# Altium schematic symbol library Resistors.SchLib: 45 symbols
Pins are listed as number, name and electrical type; pins without a type are passive.

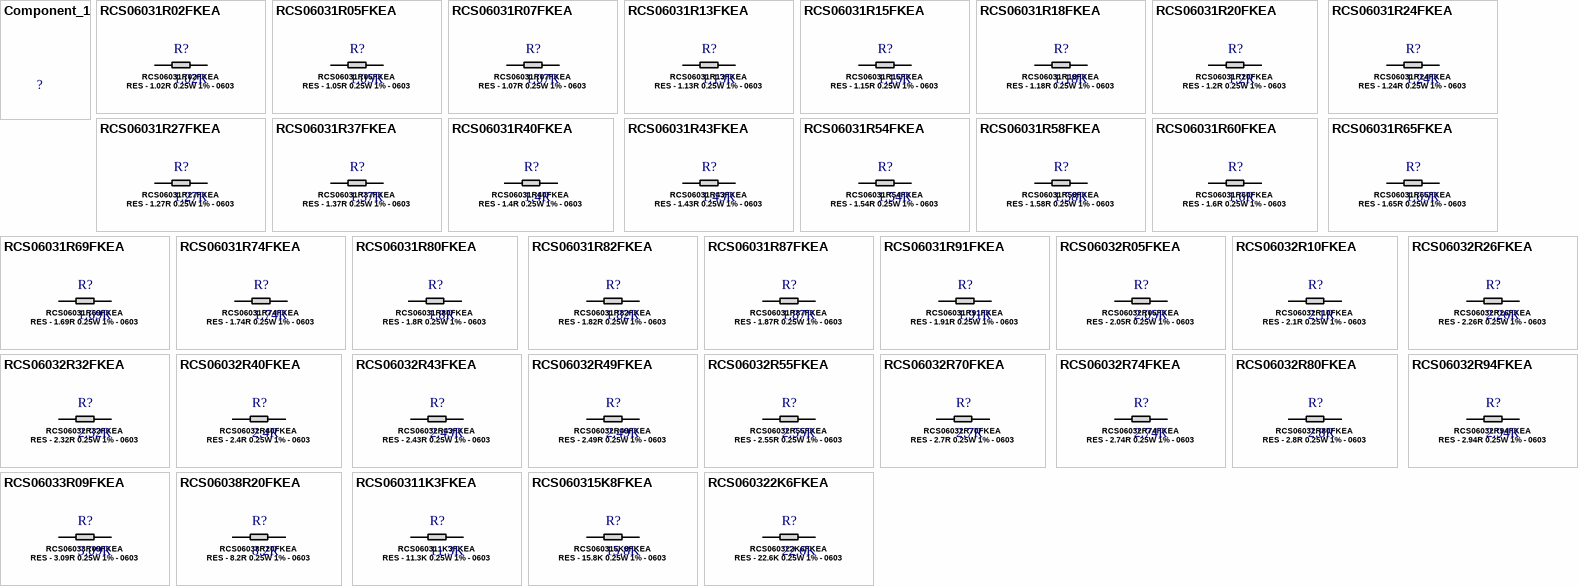
[diagram p0: symbols Component_1 to RCS060322K6FKEA]

## Component_1
designator ?

## RCS06031R02FKEA
designator R?, comment 1.02R  MPN: RCS06031R02FKEA
RES - 1.02R 0.25W 1% - 0603; Manufacturer: Vishay; Datasheet: https://www.vishay.com/docs/20065/rcse3.pdf; DES: RES - 1.02R 0.25W 1% - 0603
footprint RCS0603
pins: 1 ~, 2 ~

## RCS06031R05FKEA
designator R?, comment 1.05R  MPN: RCS06031R05FKEA
RES - 1.05R 0.25W 1% - 0603; Manufacturer: Vishay; Datasheet: https://www.vishay.com/docs/20065/rcse3.pdf; DES: RES - 1.05R 0.25W 1% - 0603
footprint RCS0603
pins: 1 ~, 2 ~

## RCS06031R07FKEA
designator R?, comment 1.07R  MPN: RCS06031R07FKEA
RES - 1.07R 0.25W 1% - 0603; Manufacturer: Vishay; Datasheet: https://www.vishay.com/docs/20065/rcse3.pdf; DES: RES - 1.07R 0.25W 1% - 0603
footprint RCS0603
pins: 1 ~, 2 ~

## RCS06031R13FKEA
designator R?, comment 1.13R  MPN: RCS06031R13FKEA
RES - 1.13R 0.25W 1% - 0603; Manufacturer: Vishay; Datasheet: https://www.vishay.com/docs/20065/rcse3.pdf; DES: RES - 1.13R 0.25W 1% - 0603
footprint RCS0603
pins: 1 ~, 2 ~

## RCS06031R15FKEA
designator R?, comment 1.15R  MPN: RCS06031R15FKEA
RES - 1.15R 0.25W 1% - 0603; Manufacturer: Vishay; Datasheet: https://www.vishay.com/docs/20065/rcse3.pdf; DES: RES - 1.15R 0.25W 1% - 0603
footprint RCS0603
pins: 1 ~, 2 ~

## RCS06031R18FKEA
designator R?, comment 1.18R  MPN: RCS06031R18FKEA
RES - 1.18R 0.25W 1% - 0603; Manufacturer: Vishay; Datasheet: https://www.vishay.com/docs/20065/rcse3.pdf; DES: RES - 1.18R 0.25W 1% - 0603
footprint RCS0603
pins: 1 ~, 2 ~

## RCS06031R20FKEA
designator R?, comment 1.2R  MPN: RCS06031R20FKEA
RES - 1.2R 0.25W 1% - 0603; Manufacturer: Vishay; Datasheet: https://www.vishay.com/docs/20065/rcse3.pdf; DES: RES - 1.2R 0.25W 1% - 0603
footprint RCS0603
pins: 1 ~, 2 ~

## RCS06031R24FKEA
designator R?, comment 1.24R  MPN: RCS06031R24FKEA
RES - 1.24R 0.25W 1% - 0603; Manufacturer: Vishay; Datasheet: https://www.vishay.com/docs/20065/rcse3.pdf; DES: RES - 1.24R 0.25W 1% - 0603
footprint RCS0603
pins: 1 ~, 2 ~

## RCS06031R27FKEA
designator R?, comment 1.27R  MPN: RCS06031R27FKEA
RES - 1.27R 0.25W 1% - 0603; Manufacturer: Vishay; Datasheet: https://www.vishay.com/docs/20065/rcse3.pdf; DES: RES - 1.27R 0.25W 1% - 0603
footprint RCS0603
pins: 1 ~, 2 ~

## RCS06031R37FKEA
designator R?, comment 1.37R  MPN: RCS06031R37FKEA
RES - 1.37R 0.25W 1% - 0603; Manufacturer: Vishay; Datasheet: https://www.vishay.com/docs/20065/rcse3.pdf; DES: RES - 1.37R 0.25W 1% - 0603
footprint RCS0603
pins: 1 ~, 2 ~

## RCS06031R40FKEA
designator R?, comment 1.4R  MPN: RCS06031R40FKEA
RES - 1.4R 0.25W 1% - 0603; Manufacturer: Vishay; Datasheet: https://www.vishay.com/docs/20065/rcse3.pdf; DES: RES - 1.4R 0.25W 1% - 0603
footprint RCS0603
pins: 1 ~, 2 ~

## RCS06031R43FKEA
designator R?, comment 1.43R  MPN: RCS06031R43FKEA
RES - 1.43R 0.25W 1% - 0603; Manufacturer: Vishay; Datasheet: https://www.vishay.com/docs/20065/rcse3.pdf; DES: RES - 1.43R 0.25W 1% - 0603
footprint RCS0603
pins: 1 ~, 2 ~

## RCS06031R54FKEA
designator R?, comment 1.54R  MPN: RCS06031R54FKEA
RES - 1.54R 0.25W 1% - 0603; Manufacturer: Vishay; Datasheet: https://www.vishay.com/docs/20065/rcse3.pdf; DES: RES - 1.54R 0.25W 1% - 0603
footprint RCS0603
pins: 1 ~, 2 ~

## RCS06031R58FKEA
designator R?, comment 1.58R  MPN: RCS06031R58FKEA
RES - 1.58R 0.25W 1% - 0603; Manufacturer: Vishay; Datasheet: https://www.vishay.com/docs/20065/rcse3.pdf; DES: RES - 1.58R 0.25W 1% - 0603
footprint RCS0603
pins: 1 ~, 2 ~

## RCS06031R60FKEA
designator R?, comment 1.6R  MPN: RCS06031R60FKEA
RES - 1.6R 0.25W 1% - 0603; Manufacturer: Vishay; Datasheet: https://www.vishay.com/docs/20065/rcse3.pdf; DES: RES - 1.6R 0.25W 1% - 0603
footprint RCS0603
pins: 1 ~, 2 ~

## RCS06031R65FKEA
designator R?, comment 1.65R  MPN: RCS06031R65FKEA
RES - 1.65R 0.25W 1% - 0603; Manufacturer: Vishay; Datasheet: https://www.vishay.com/docs/20065/rcse3.pdf; DES: RES - 1.65R 0.25W 1% - 0603
footprint RCS0603
pins: 1 ~, 2 ~

## RCS06031R69FKEA
designator R?, comment 1.69R  MPN: RCS06031R69FKEA
RES - 1.69R 0.25W 1% - 0603; Manufacturer: Vishay; Datasheet: https://www.vishay.com/docs/20065/rcse3.pdf; DES: RES - 1.69R 0.25W 1% - 0603
footprint RCS0603
pins: 1 ~, 2 ~

## RCS06031R74FKEA
designator R?, comment 1.74R  MPN: RCS06031R74FKEA
RES - 1.74R 0.25W 1% - 0603; Manufacturer: Vishay; Datasheet: https://www.vishay.com/docs/20065/rcse3.pdf; DES: RES - 1.74R 0.25W 1% - 0603
footprint RCS0603
pins: 1 ~, 2 ~

## RCS06031R80FKEA
designator R?, comment 1.8R  MPN: RCS06031R80FKEA
RES - 1.8R 0.25W 1% - 0603; Manufacturer: Vishay; Datasheet: https://www.vishay.com/docs/20065/rcse3.pdf; DES: RES - 1.8R 0.25W 1% - 0603
footprint RCS0603
pins: 1 ~, 2 ~

## RCS06031R82FKEA
designator R?, comment 1.82R  MPN: RCS06031R82FKEA
RES - 1.82R 0.25W 1% - 0603; Manufacturer: Vishay; Datasheet: https://www.vishay.com/docs/20065/rcse3.pdf; DES: RES - 1.82R 0.25W 1% - 0603
footprint RCS0603
pins: 1 ~, 2 ~

## RCS06031R87FKEA
designator R?, comment 1.87R  MPN: RCS06031R87FKEA
RES - 1.87R 0.25W 1% - 0603; Manufacturer: Vishay; Datasheet: https://www.vishay.com/docs/20065/rcse3.pdf; DES: RES - 1.87R 0.25W 1% - 0603
footprint RCS0603
pins: 1 ~, 2 ~

## RCS06031R91FKEA
designator R?, comment 1.91R  MPN: RCS06031R91FKEA
RES - 1.91R 0.25W 1% - 0603; Manufacturer: Vishay; Datasheet: https://www.vishay.com/docs/20065/rcse3.pdf; DES: RES - 1.91R 0.25W 1% - 0603
footprint RCS0603
pins: 1 ~, 2 ~

## RCS06032R05FKEA
designator R?, comment 2.05R  MPN: RCS06032R05FKEA
RES - 2.05R 0.25W 1% - 0603; Manufacturer: Vishay; Datasheet: https://www.vishay.com/docs/20065/rcse3.pdf; DES: RES - 2.05R 0.25W 1% - 0603
footprint RCS0603
pins: 1 ~, 2 ~

## RCS06032R10FKEA
designator R?, comment 2.1R  MPN: RCS06032R10FKEA
RES - 2.1R 0.25W 1% - 0603; Manufacturer: Vishay; Datasheet: https://www.vishay.com/docs/20065/rcse3.pdf; DES: RES - 2.1R 0.25W 1% - 0603
footprint RCS0603
pins: 1 ~, 2 ~

## RCS06032R26FKEA
designator R?, comment 2.26R  MPN: RCS06032R26FKEA
RES - 2.26R 0.25W 1% - 0603; Manufacturer: Vishay; Datasheet: https://www.vishay.com/docs/20065/rcse3.pdf; DES: RES - 2.26R 0.25W 1% - 0603
footprint RCS0603
pins: 1 ~, 2 ~

## RCS06032R32FKEA
designator R?, comment 2.32R  MPN: RCS06032R32FKEA
RES - 2.32R 0.25W 1% - 0603; Manufacturer: Vishay; Datasheet: https://www.vishay.com/docs/20065/rcse3.pdf; DES: RES - 2.32R 0.25W 1% - 0603
footprint RCS0603
pins: 1 ~, 2 ~

## RCS06032R40FKEA
designator R?, comment 2.4R  MPN: RCS06032R40FKEA
RES - 2.4R 0.25W 1% - 0603; Manufacturer: Vishay; Datasheet: https://www.vishay.com/docs/20065/rcse3.pdf; DES: RES - 2.4R 0.25W 1% - 0603
footprint RCS0603
pins: 1 ~, 2 ~

## RCS06032R43FKEA
designator R?, comment 2.43R  MPN: RCS06032R43FKEA
RES - 2.43R 0.25W 1% - 0603; Manufacturer: Vishay; Datasheet: https://www.vishay.com/docs/20065/rcse3.pdf; DES: RES - 2.43R 0.25W 1% - 0603
footprint RCS0603
pins: 1 ~, 2 ~

## RCS06032R49FKEA
designator R?, comment 2.49R  MPN: RCS06032R49FKEA
RES - 2.49R 0.25W 1% - 0603; Manufacturer: Vishay; Datasheet: https://www.vishay.com/docs/20065/rcse3.pdf; DES: RES - 2.49R 0.25W 1% - 0603
footprint RCS0603
pins: 1 ~, 2 ~

## RCS06032R55FKEA
designator R?, comment 2.55R  MPN: RCS06032R55FKEA
RES - 2.55R 0.25W 1% - 0603; Manufacturer: Vishay; Datasheet: https://www.vishay.com/docs/20065/rcse3.pdf; DES: RES - 2.55R 0.25W 1% - 0603
footprint RCS0603
pins: 1 ~, 2 ~

## RCS06032R70FKEA
designator R?, comment 2.7R  MPN: RCS06032R70FKEA
RES - 2.7R 0.25W 1% - 0603; Manufacturer: Vishay; Datasheet: https://www.vishay.com/docs/20065/rcse3.pdf; DES: RES - 2.7R 0.25W 1% - 0603
footprint RCS0603
pins: 1 ~, 2 ~

## RCS06032R74FKEA
designator R?, comment 2.74R  MPN: RCS06032R74FKEA
RES - 2.74R 0.25W 1% - 0603; Manufacturer: Vishay; Datasheet: https://www.vishay.com/docs/20065/rcse3.pdf; DES: RES - 2.74R 0.25W 1% - 0603
footprint RCS0603
pins: 1 ~, 2 ~

## RCS06032R80FKEA
designator R?, comment 2.8R  MPN: RCS06032R80FKEA
RES - 2.8R 0.25W 1% - 0603; Manufacturer: Vishay; Datasheet: https://www.vishay.com/docs/20065/rcse3.pdf; DES: RES - 2.8R 0.25W 1% - 0603
footprint RCS0603
pins: 1 ~, 2 ~

## RCS06032R94FKEA
designator R?, comment 2.94R  MPN: RCS06032R94FKEA
RES - 2.94R 0.25W 1% - 0603; Manufacturer: Vishay; Datasheet: https://www.vishay.com/docs/20065/rcse3.pdf; DES: RES - 2.94R 0.25W 1% - 0603
footprint RCS0603
pins: 1 ~, 2 ~

## RCS06033R09FKEA
designator R?, comment 3.09R  MPN: RCS06033R09FKEA
RES - 3.09R 0.25W 1% - 0603; Manufacturer: Vishay; Datasheet: https://www.vishay.com/docs/20065/rcse3.pdf; DES: RES - 3.09R 0.25W 1% - 0603
footprint RCS0603
pins: 1 ~, 2 ~

## RCS06038R20FKEA
designator R?, comment 8.2R  MPN: RCS06038R20FKEA
RES - 8.2R 0.25W 1% - 0603; Manufacturer: Vishay; Datasheet: https://www.vishay.com/docs/20065/rcse3.pdf; DES: RES - 8.2R 0.25W 1% - 0603
footprint RCS0603
pins: 1 ~, 2 ~

## RCS060311K3FKEA
designator R?, comment 11.3K  MPN: RCS060311K3FKEA
RES - 11.3K 0.25W 1% - 0603; Manufacturer: Vishay; Datasheet: https://www.vishay.com/docs/20065/rcse3.pdf; DES: RES - 11.3K 0.25W 1% - 0603
footprint RCS0603
pins: 1 ~, 2 ~

## RCS060315K8FKEA
designator R?, comment 15.8K  MPN: RCS060315K8FKEA
RES - 15.8K 0.25W 1% - 0603; Manufacturer: Vishay; Datasheet: https://www.vishay.com/docs/20065/rcse3.pdf; DES: RES - 15.8K 0.25W 1% - 0603
footprint RCS0603
pins: 1 ~, 2 ~

## RCS060322K6FKEA
designator R?, comment 22.6K  MPN: RCS060322K6FKEA
RES - 22.6K 0.25W 1% - 0603; Manufacturer: Vishay; Datasheet: https://www.vishay.com/docs/20065/rcse3.pdf; DES: RES - 22.6K 0.25W 1% - 0603
footprint RCS0603
pins: 1 ~, 2 ~

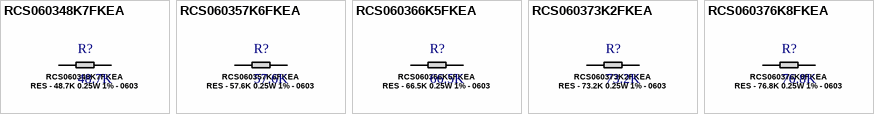
[diagram p1: symbols RCS060348K7FKEA to RCS060376K8FKEA]

## RCS060348K7FKEA
designator R?, comment 48.7K  MPN: RCS060348K7FKEA
RES - 48.7K 0.25W 1% - 0603; Manufacturer: Vishay; Datasheet: https://www.vishay.com/docs/20065/rcse3.pdf; DES: RES - 48.7K 0.25W 1% - 0603
footprint RCS0603
pins: 1 ~, 2 ~

## RCS060357K6FKEA
designator R?, comment 57.6K  MPN: RCS060357K6FKEA
RES - 57.6K 0.25W 1% - 0603; Manufacturer: Vishay; Datasheet: https://www.vishay.com/docs/20065/rcse3.pdf; DES: RES - 57.6K 0.25W 1% - 0603
footprint RCS0603
pins: 1 ~, 2 ~

## RCS060366K5FKEA
designator R?, comment 66.5K  MPN: RCS060366K5FKEA
RES - 66.5K 0.25W 1% - 0603; Manufacturer: Vishay; Datasheet: https://www.vishay.com/docs/20065/rcse3.pdf; DES: RES - 66.5K 0.25W 1% - 0603
footprint RCS0603
pins: 1 ~, 2 ~

## RCS060373K2FKEA
designator R?, comment 73.2K  MPN: RCS060373K2FKEA
RES - 73.2K 0.25W 1% - 0603; Manufacturer: Vishay; Datasheet: https://www.vishay.com/docs/20065/rcse3.pdf; DES: RES - 73.2K 0.25W 1% - 0603
footprint RCS0603
pins: 1 ~, 2 ~

## RCS060376K8FKEA
designator R?, comment 76.8K  MPN: RCS060376K8FKEA
RES - 76.8K 0.25W 1% - 0603; Manufacturer: Vishay; Datasheet: https://www.vishay.com/docs/20065/rcse3.pdf; DES: RES - 76.8K 0.25W 1% - 0603
footprint RCS0603
pins: 1 ~, 2 ~